# Altium footprint library Conectors.PcbLib: 137 footprints (part 1 of 9)
Each footprint in its own frame and in the unit in brackets; x right, y up, seen from the top. Pads: shape width x height; smd on the part's side, far side on the other; paste and mask are expansions set on the pad; w line width, h text height; cw(c..) or ccw(c..) is an arc to the next point about the centre after c.
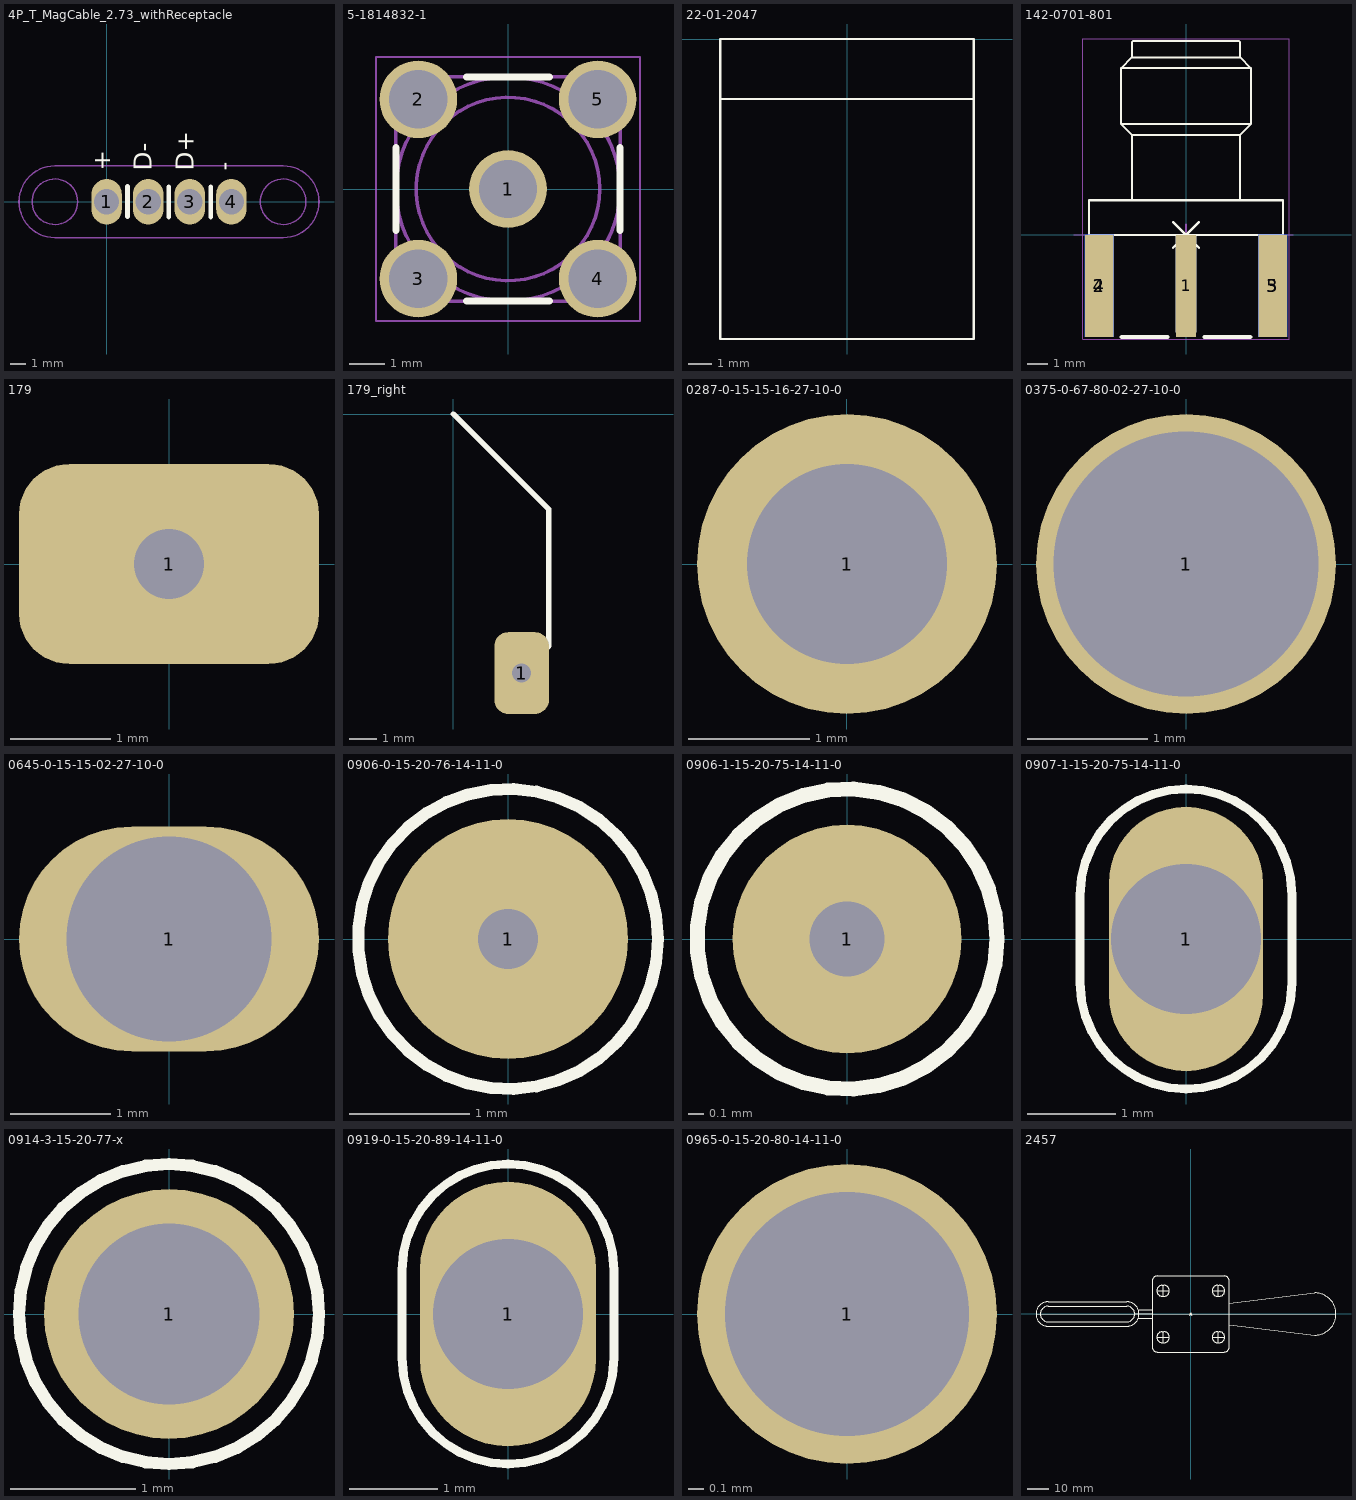
[diagram p0: the footprints below, top view; thin cyan lines are the x and y axes]

## 4P_T_MagCable_2.73_withReceptacle [mm]
pads (4):
  oval 2x3 / inner round 2 / far side oval 2x3 hole 1.65: 1(0,0) 2(2.73,0) 3(5.46,0) 4(8.19,0)
Top Overlay:
  lines w0.3: 1.372,-0.991 1.372,1.009 ; 4.089,-1 4.089,1 ; 6.833,-1 6.833,1
  text "-" at 8.654,2.032 h2
  text "D+" at 6.101,2.032 h2
  text "D-" at 3.371,2.032 h2
  text "+" at 0.63,2.032 h2
Bottom Overlay:
  lines w0.3: 1.372,-0.991 1.372,1.009 ; 4.089,-1 4.089,1 ; 6.833,-1 6.833,1
Mechanical 15:
  circle w0.1: c11.59,0 r1.5
  circle w0.1: c-3.4,0 r1.5
  lines w0.1: -3.4,-2.355 cw(c-3.4,0) -3.4,2.355 11.59,2.355 cw(c11.59,0) 11.59,-2.355 -3.4,-2.355
  text "S" at 12.231,-0.509 h2
  text "N" at -2.759,-0.505 h2
3D body "0287-0-15-15-16-27-10-0.step": height 1.19, standoff -1.09, extent 7.174,-1.009 9.206,1.009
3D body "0287-0-15-15-16-27-10-0.step": height 1.19, standoff -1.09, extent 4.444,-1.009 6.476,1.009
3D body "0287-0-15-15-16-27-10-0.step": height 1.19, standoff -1.09, extent 1.714,-1.009 3.746,1.009
3D body "0287-0-15-15-16-27-10-0.step": height 1.19, standoff -1.09, extent -1.016,-1.009 1.016,1.009

## 5-1814832-1 [mm] "CONN SMA JACK STR 50 OHM PCB"
pads (5):
  round 2.2 hole 1.65: 1(0,0) 2(-2.54,2.54) 3(-2.54,-2.54) 4(2.54,-2.54) 5(2.54,2.54)
Top Overlay:
  lines w0.2: -3.175,-1.181 -3.175,1.181 ; -1.181,-3.175 1.181,-3.175 ; -1.181,3.175 1.181,3.175 ; 3.175,-1.181 3.175,1.181
Mechanical 13:
  circle w0.1: c0,0 r3.175
  circle w0.1: c0,0 r2.6
  circle w0.1: c0,0 r0.635
  lines w0.1: -3.191,-2.808 ccw(c0,0) -2.808,-3.191 ; -3.191,2.808 cw(c0,0) -2.808,3.191 ; -3.175,-2.794 -3.175,2.794 ; -3.04,-2.97 -3.04,-2.04 -2.04,-2.04 -2.04,-3.04 -2.97,-3.04 ; -3.04,2.97 -3.04,2.04 -2.04,2.04 -2.04,3.04 -2.97,3.04 ; -2.794,-3.175 2.794,-3.175 ; -2.794,3.175 2.794,3.175 ; -0.1,-0.627 -0.1,0.627 ; 0.1,-0.627 0.1,0.627 ; 2.808,-3.191 ccw(c0,0) 3.191,-2.808 ; 2.808,3.191 cw(c0,0) 3.191,2.808 ; 2.97,3.04 2.04,3.04 2.04,2.04 3.04,2.04 3.04,2.97 ; 2.97,-3.04 2.04,-3.04 2.04,-2.04 3.04,-2.04 3.04,-2.97 ; 3.175,-2.794 3.175,2.794
Mechanical 15:
  lines w0.05: -3.74,-3.74 -3.74,3.74 3.74,3.74 3.74,-3.74 -3.74,-3.74
  lines w0.1: -0.635,0 0.508,0 ; 0,-0.508 0,0.635
3D body "User Library-5-1814832-1.step": height 9.72, standoff -3.81, extent -3.175,-3.175 3.175,3.175

## 22-01-2047 [mm]
Top Overlay:
  lines w0.1: -5.359,-2.54 5.359,-2.54 ; -5.359,-12.7 -5.359,0 5.359,0 5.359,-12.7 -5.359,-12.7
3D body "022012047.stp": height 5.44, standoff 0, extent -5.36,-12.7 5.359,0

## 142-0701-801 [mm] "CONN SMA JACK STR 50OHM EDGE MNT"
pads (5):
  rect 1x5 smd: 1(0,-2.5)
  rect 1.4x5 smd: 2(-4.25,-2.5) 3(4.25,-2.5)
  rect 1.4x5 smd far side paste-2: 4(-4.25,-2.5) 5(4.25,-2.5)
Top Overlay:
  lines w0.1: -3.75,0 -3.75,-4.75 -4.75,-4.75 -4.75,0 ; -2.65,1.7 -2.65,4.9 ; -0.635,-0.635 0.635,0.635 ; -0.635,0.635 0.635,-0.635 ; -0.46,0 -0.46,-4.75 0.46,-4.75 0.46,0 ; 2.65,1.7 2.65,4.9 ; 3.75,0 3.75,-4.75 4.75,-4.75 4.75,0 ; -4.75,0 4.75,0 ; -4.75,0 -4.75,1.7 4.75,1.7 4.75,0 ; -3.175,5.425 -3.175,8.175 ; -3.175,5.425 -2.65,4.9 ; -3.175,5.425 3.175,5.425 ; -3.175,8.175 3.175,8.175 ; -3.175,8.175 -2.65,8.7 ; -2.65,4.9 2.65,4.9 ; -2.65,8.7 -2.65,9.45 -2.6,9.5 2.6,9.5 2.65,9.45 2.65,8.7 ; -2.65,8.7 2.65,8.7 ; 2.65,4.9 3.175,5.425 ; 2.65,8.7 3.175,8.175 ; 3.175,5.425 3.175,8.175
  lines w0.2: -3.15,-5 -0.9,-5 ; 0.9,-5 3.15,-5
Mechanical 3:
  lines w0.05: -5.5,0 5.25,0
Mechanical 15:
  lines w0.05: -5.05,-5.1 5.05,-5.1 5.05,9.6 -5.05,9.6 -5.05,-5.1
  lines w0.1: -0.5,0 0.5,0 ; 0,-0.5 0,0.5
3D body "User Library-142-0701-801.step": height 4.42, standoff -3.5, extent -4.762,-4.94 4.763,9.335

## 179 [mm]
pads (1):
  rrect50% 3x2 hole 0.7: 1(0,0)
3D body "AAA-spring.STEP": height 8.75, standoff -14.5, extent -3.01,-1.211 3.191,0.25

## 179_right [mm]
pads (1):
  rrect50% 2x3 hole 0.7: 1(2.5,-9.5)
Top Overlay:
  lines w0.1: 2,-10 3,-9 ; 2,-9 3,-10
  lines w0.2: 0,0 3.5,-3.5 3.5,-8.5 2.5,-9.5
3D body "AAA-spring.STEP": height 3.19, standoff -3.01, extent -3.154,-14.998 14.319,2.475

## 0287-0-15-15-16-27-10-0 [mil]
pads (1):
  round 97.52 hole 65: 1(0,0)
3D body "0287-0-15-15-16-27-10-0.step": height 46.97, standoff -43.03, extent -39.51,-39.96 40.49,39.46

## 0375-0-67-80-02-27-10-0 [mm]
pads (1):
  round 2.5 hole 2.21: 1(0,0)
3D body "0375-0-67-80-02-27-10-0.step": height 0.81, standoff -2.24, extent -1.273,-1.265 1.267,1.256

## 0645-0-15-15-02-27-10-0 [mm]
pads (1):
  oval 3x2.25 hole 2.05: 1(0,0)
3D body "0645-0-15-15-02-27-10-0.step": height 2, standoff -1.05, extent -1.265,-1.096 1.265,1.096

## 0906-0-15-20-76-14-11-0 [mm]
pads (1):
  round 2 hole 0.5: 1(0,0)
Top Overlay:
  circle w0.1: c0,0 r1.25
3D body "0906-0-15-20-76-14-11-0.STEP": height 3.48, standoff -1.97, extent -0.907,-0.913 0.914,0.913

## 0906-1-15-20-75-14-11-0 [mil]
pads (1):
  round 60 hole 19.68: 1(0,0)
Top Overlay:
  circle w3.94: c0,0 r39.37
3D body "pogo pin 0906-1-15-20-75-14-11-0.STEP": height 179.13, standoff -66.93, extent -36.02,-36.02 36.03,36.03

## 0907-1-15-20-75-14-11-0 [mm]
pads (1):
  oval 1.75x3 hole 1.7: 1(0,0)
Top Overlay:
  lines w0.1: -1.2,-0.5 ccw(c0,-0.5) 1.2,-0.5 1.2,0.5 ccw(c0,0.5) -1.2,0.5 -1.2,-0.5
3D body "MOD_0907-1-15-20-75-14-11-0.STEP": height 0.41, standoff -5.95, extent -0.915,-0.915 0.915,0.915

## 0914-3-15-20-77-x [mm]
pads (1):
  round 2 hole 1.45: 1(0,0)
Top Overlay:
  circle w0.1: c0,0 r1.2
3D body: height 6.96, standoff 1.12, extent -0.744,-0.749 0.75,0.748
3D body: height 1.12, standoff 0.41, extent -0.808,-0.813 0.815,0.814
3D body: height 0.41, standoff 0, extent -0.908,-0.913 0.915,0.913
3D body: height 0, standoff -0.71, extent -0.694,-0.698 0.7,0.699
3D body: height 9.25, standoff 6.96, extent -0.531,-0.534 0.535,0.534

## 0919-0-15-20-89-14-11-0 [mm]
pads (1):
  oval 2x3 hole 1.7: 1(0,0)
Top Overlay:
  lines w0.1: -1.2,-0.5 ccw(c0,-0.5) 1.2,-0.5 1.2,0.5 ccw(c0,0.5) -1.2,0.5 -1.2,-0.5
3D body "pogopin_0919-0-15-20-89-14-11-0 v1.step": height 0.41, standoff -9.68, extent -0.907,-0.912 0.915,0.913

## 0965-0-15-20-80-14-11-0 [mm] "0965-0-15-20-80-14-11-0"
pads (1):
  round 2 hole 1.626: 1(0,0)
3D body "POGOPIN v1.step": height 1.38, standoff -0.85, extent -0.914,-0.912 0.907,0.912

## 2457 [mm]
Top Overlay:
  lines w0.1: -73.25,0 68.75,0 ; -26.55,0 -18.25,0 ; -18.25,-2 -24.859,-2 cw(c-30.25,0) -30.25,-5.75 ; -18.25,2 -24.859,2 ccw(c-30.25,0) -30.25,5.75 ; -16.1,-11 -10.1,-11 ; -16.1,11 -10.1,11 ; -13.1,-13.6 -13.1,-8.4 ; -13.1,8.4 -13.1,13.6 ; -0.5,-0.5 0.5,0.5 ; -0.5,0.5 0.5,-0.5 ; 10.1,-11 16.1,-11 ; 10.1,11 16.1,11 ; 13.1,-13.6 13.1,-8.4 ; 13.1,8.4 13.1,13.6 ; 18.25,-5 58.75,-10 ccw(c58.75,0) 58.75,10 18.25,5 ; -30.25,-5.75 ccw(c-30.25,0) -30.25,5.75 ; -30.25,-5.75 -67.5,-5.75 cw(c-67.5,0) -67.5,5.75 -30.25,5.75 ; -67.5,-3.7 cw(c-67.5,0) -67.5,3.7 -30.25,3.7 cw(c-30.25,0) -30.25,-3.7 -67.5,-3.7 ; -18.25,-15.5 ccw(c-15.75,-15.5) -15.75,-18 15.75,-18 ccw(c15.75,-15.5) 18.25,-15.5 18.25,15.5 ccw(c15.75,15.5) 15.75,18 -15.75,18 ccw(c-15.75,15.5) -18.25,15.5 -18.25,-15.5 ; -13.5,-13.6 cw(c-13.5,-11) -13.5,-8.4 -12.7,-8.4 cw(c-12.7,-11) -12.7,-13.6 -13.5,-13.6 ; -13.5,8.4 cw(c-13.5,11) -13.5,13.6 -12.7,13.6 cw(c-12.7,11) -12.7,8.4 -13.5,8.4 ; 12.7,-13.6 cw(c12.7,-11) 12.7,-8.4 13.5,-8.4 cw(c13.5,-11) 13.5,-13.6 12.7,-13.6 ; 12.7,8.4 cw(c12.7,11) 12.7,13.6 13.5,13.6 cw(c13.5,11) 13.5,8.4 12.7,8.4
3D body "SierraPacific-J3316.step": height 55.88, standoff 0, extent -75.807,-18 67.528,18